# Altium schematic symbol library LPC55S69JBD100K.SchLib: 1 symbol
Pins are listed as number, name and electrical type; pins without a type are passive.

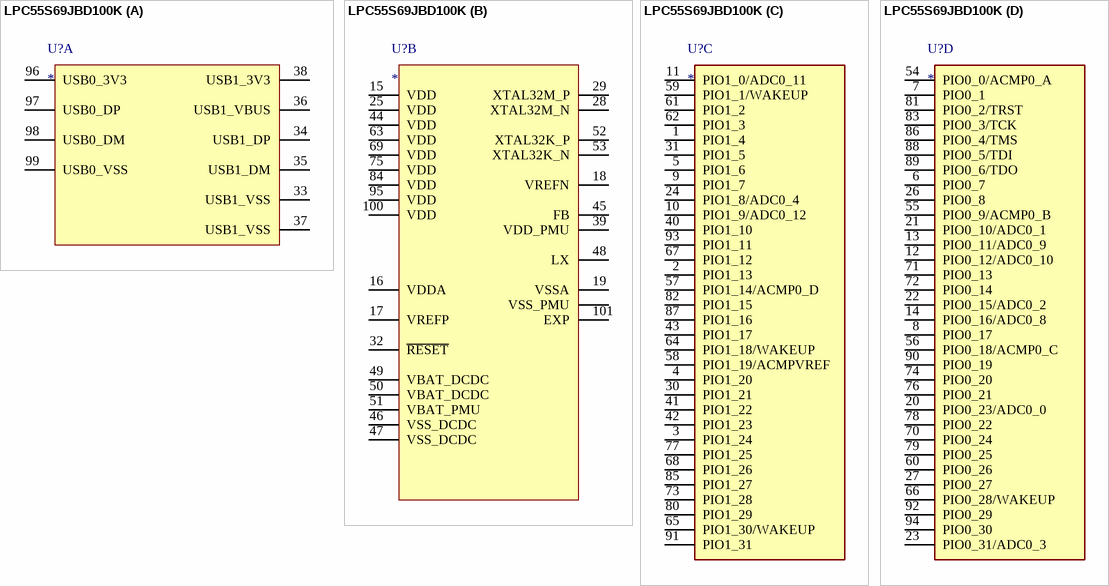
[diagram p0: symbol LPC55S69JBD100K]

## LPC55S69JBD100K
designator U?
ARMÂ® CortexÂ®-M33 LPC55S6x Microcontroller IC 32-Bit 100MHz 640KB (640K x 8) FLASH 100-HLQFP (14x14); MF: NXP USA; MP: LPC55S69JBD100K; SnapEDA_Link: https://www.snapeda.com/parts/LPC55S69JBD100K/NXP%20USA%20Inc./view-part/3218883/?ref=snap; Value: *; Package: LQFP-100 NXP Semiconductors; DigiKey-Purchase-URL: https://snapeda.com/shop?store=DigiKey&id=3218883; Digi-Key_Part_Number: 568-15313-ND; Mouser-Purchase-URL: https://snapeda.com/shop?store=Mouser&id=3218883
footprint QFP50P1600X1600X160-101N
part A pins: 33 USB1_VSS, 34 USB1_DP, 35 USB1_DM, 36 USB1_VBUS, 37 USB1_VSS, 38 USB1_3V3, 96 USB0_3V3 (power), 97 USB0_DP, 98 USB0_DM, 99 USB0_VSS (power)
part B pins: 15 VDD (power), 16 VDDA, 17 VREFP, 18 VREFN, 19 VSSA, 25 VDD (power), 28 XTAL32M_N, 29 XTAL32M_P, 32 ~{RESET}, 39 VDD_PMU, 44 VDD (power), 45 FB, 46 VSS_DCDC, 47 VSS_DCDC, 48 LX, 49 VBAT_DCDC, 50 VBAT_DCDC, 51 VBAT_PMU, 52 XTAL32K_P, 53 XTAL32K_N, 63 VDD (power), 69 VDD (power), 75 VDD (power), 84 VDD (power), 95 VDD (power), 100 VDD (power), 101 EXP, ? VSS_PMU
part C pins: 1 PIO1_4, 2 PIO1_13, 3 PIO1_24, 4 PIO1_20, 5 PIO1_6, 9 PIO1_7, 10 PIO1_9/ADC0_12, 11 PIO1_0/ADC0_11, 24 PIO1_8/ADC0_4, 30 PIO1_21, 31 PIO1_5, 40 PIO1_10, 41 PIO1_22, 42 PIO1_23, 43 PIO1_17, 57 PIO1_14/ACMP0_D, 58 PIO1_19/ACMPVREF, 59 PIO1_1/WAKEUP, 61 PIO1_2, 62 PIO1_3, 64 PIO1_18/WAKEUP, 65 PIO1_30/WAKEUP, 67 PIO1_12, 68 PIO1_26, 73 PIO1_28, 77 PIO1_25, 80 PIO1_29, 82 PIO1_15, 85 PIO1_27, 87 PIO1_16, 91 PIO1_31, 93 PIO1_11
part D pins: 6 PIO0_7, 7 PIO0_1, 8 PIO0_17, 12 PIO0_12/ADC0_10, 13 PIO0_11/ADC0_9, 14 PIO0_16/ADC0_8, 20 PIO0_23/ADC0_0, 21 PIO0_10/ADC0_1, 22 PIO0_15/ADC0_2, 23 PIO0_31/ADC0_3, 26 PIO0_8, 27 PIO0_27, 54 PIO0_0/ACMP0_A, 55 PIO0_9/ACMP0_B, 56 PIO0_18/ACMP0_C, 60 PIO0_26, 66 PIO0_28/WAKEUP, 70 PIO0_24, 71 PIO0_13, 72 PIO0_14, 74 PIO0_20, 76 PIO0_21, 78 PIO0_22, 79 PIO0_25, 81 PIO0_2/TRST, 83 PIO0_3/TCK, 86 PIO0_4/TMS, 88 PIO0_5/TDI, 89 PIO0_6/TDO, 90 PIO0_19, 92 PIO0_29, 94 PIO0_30